# EAGLE library part CSRM100 (library capstone)
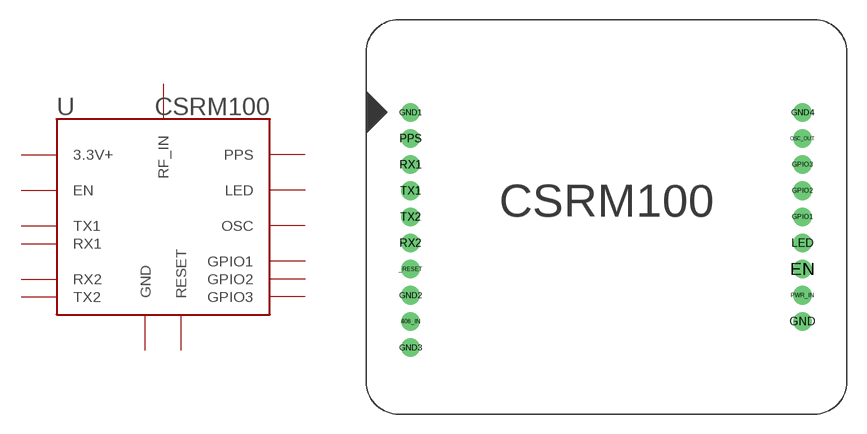
[diagram p2: symbol with the pads of CSRM; footprint CSRM]

Designator prefix U

## CSRM100  [CSRM]
406_IN  RF_IN
_RESET  RESET
EN  EN
GND  GND
GND1  GND
GND2  GND
GND3  GND
GND4  GND
GPIO1  GPIO1
GPIO2  GPIO2
GPIO3  GPIO3
LED  LED
OSC_OUT  OSC
PPS  PPS
PWR_IN  3.3V+
RX1  RX1
RX2  RX2
TX1  TX1
TX2  TX2

## Footprint CSRM (pad centres in mm)
drill 0.65 pad 1.422: 406_IN 0,-16; _RESET 0,-12; EN 30,-12; GND 30,-16; GND1 0,0; GND2 0,-14; GND3 0,-18; GND4 30,0; GPIO1 30,-8; GPIO2 30,-6; GPIO3 30,-4; LED 30,-10; OSC_OUT 30,-2; PPS 0,-2; PWR_IN 30,-14; RX1 0,-4; RX2 0,-10; TX1 0,-6; TX2 0,-8